# EAGLE library part TRANSLATOR_4CH_TXB0104 (library powercube)
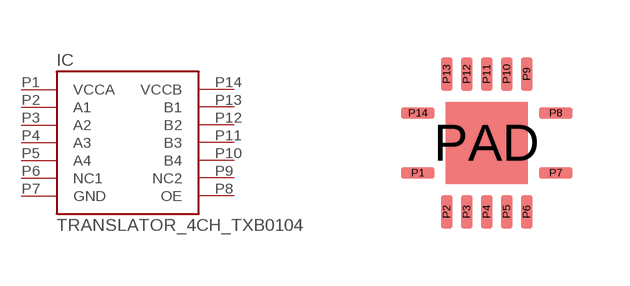
[diagram p12: symbol with the pads of TRANSLATOR_4CH_RGY; footprint TRANSLATOR_4CH_RGY]

Designator prefix IC

## TRANSLATOR_4CH_TXB0104 (DIGIKEY: 296-21928-1-ND)  [TRANSLATOR_4CH_RGY]
P1  VCCA
P2  A1
P3  A2
P4  A3
P5  A4
P6  NC1
P7  GND
P8  OE
P9  NC2
P10  B4
P11  B3
P12  B2
P13  B1
P14  VCCB

## Footprint TRANSLATOR_4CH_RGY (pad centres in mm)
smd 0.85 x 0.28: P1 -1.725,-0.75; P7 1.725,-0.75; P8 1.725,0.75; P14 -1.725,0.75
smd 0.28 x 0.85: P2 -1,-1.725; P3 -0.5,-1.725; P4 0,-1.725; P5 0.5,-1.725; P6 1,-1.725; P9 1,1.725; P10 0.5,1.725; P11 0,1.725; P12 -0.5,1.725; P13 -1,1.725
smd 2.05 x 2.05: PAD 0,0